# Altium footprint library NEW_PCB_2022-01-04.PcbLib: 1 footprints
Each footprint in its own frame and in the unit in brackets; x right, y up, seen from the top. Pads: shape width x height; smd on the part's side, far side on the other; paste and mask are expansions set on the pad; w line width, h text height; cw(c..) or ccw(c..) is an arc to the next point about the centre after c.
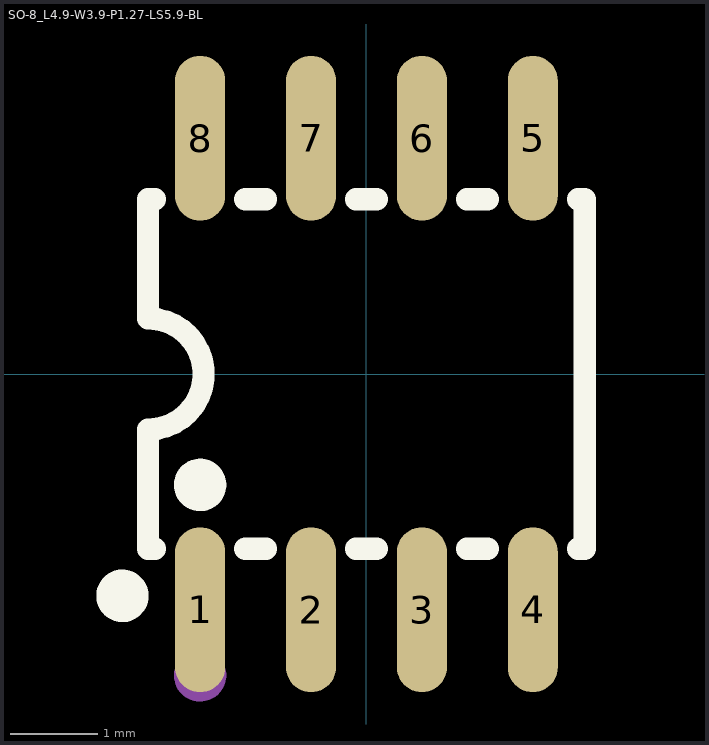
[diagram p0: the footprint, top view; thin cyan lines are the x and y axes]

## SO-8_L4.9-W3.9-P1.27-LS5.9-BL [mil]
pads (8):
  oval 22.6x74.33 smd: 1(-75,-106.26) 2(-25,-106.26) 3(25,-106.26) 4(75,-106.26) 5(75,106.26) 6(25,106.26) 7(-25,106.26) 8(-75,106.26)
Top Overlay:
  circle w11.81: c-110,-100 r5.91
  circle w11.81: c-75,-50 r5.91
  lines w10: -95.33,-78.74 -98.42,-78.74 -98.42,-25 ccw(c-98.41,0) -98.4,25 -98.42,78.74 -95.33,78.74 ; -54.67,-78.74 -45.33,-78.74 ; -54.67,78.74 -45.33,78.74 ; -4.67,-78.74 4.67,-78.74 ; -4.67,78.74 4.67,78.74 ; 45.33,-78.74 54.67,-78.74 ; 45.33,78.74 54.67,78.74 ; 95.33,-78.74 98.42,-78.74 98.42,78.74 95.33,78.74
Mechanical 15:
  circle w11.81: c-75,-135.83 r5.91